# Altium footprint library recom-international.PCBLIB: 6 footprints
Each footprint in its own frame and in the unit in brackets; x right, y up, seen from the top. Pads: shape width x height; smd on the part's side, far side on the other; paste and mask are expansions set on the pad; w line width, h text height; cw(c..) or ccw(c..) is an arc to the next point about the centre after c.
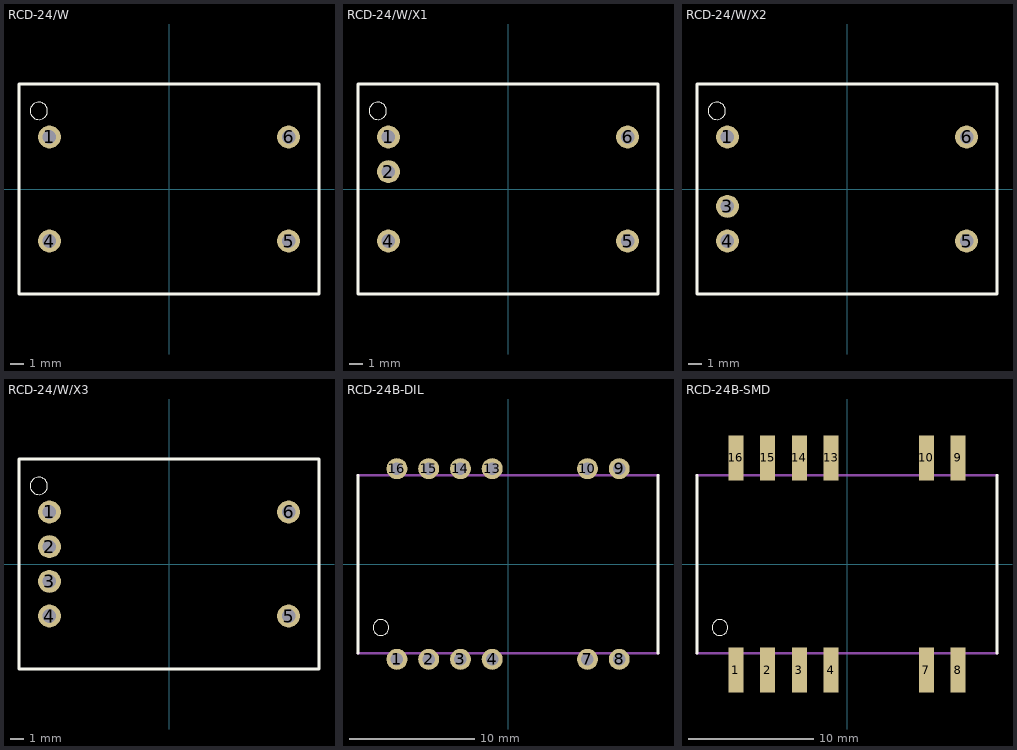
[diagram p0: the footprints below, top view; thin cyan lines are the x and y axes]

## RCD-24/W [mil]
pads (4):
  round 66 hole 39.37: 1(-344.49,150) 4(-344.49,-150) 5(344.49,-150) 6(344.49,150)
Top Overlay:
  circle w0: c-375,225 r25
  lines w8: -432.09,-302.17 432.09,-302.17 432.09,302.17 -432.09,302.17 -432.09,-302.17

## RCD-24/W/X1 [mil]
pads (5):
  round 66 hole 39.37: 1(-344.49,150) 2(-344.49,50) 4(-344.49,-150) 5(344.49,-150) 6(344.49,150)
Top Overlay:
  circle w0: c-375,225 r25
  lines w8: -432.09,-302.17 432.09,-302.17 432.09,302.17 -432.09,302.17 -432.09,-302.17

## RCD-24/W/X2 [mil]
pads (5):
  round 66 hole 39.37: 1(-344.49,150) 3(-344.49,-50) 4(-344.49,-150) 5(344.49,-150) 6(344.49,150)
Top Overlay:
  circle w0: c-375,225 r25
  lines w8: -432.09,-302.17 432.09,-302.17 432.09,302.17 -432.09,302.17 -432.09,-302.17

## RCD-24/W/X3 [mil]
pads (6):
  round 66 hole 39.37: 1(-344.49,150) 2(-344.49,50) 3(-344.49,-50) 4(-344.49,-150) 5(344.49,-150) 6(344.49,150)
Top Overlay:
  circle w0: c-375,225 r25
  lines w8: -432.09,-302.17 432.09,-302.17 432.09,302.17 -432.09,302.17 -432.09,-302.17

## RCD-24B-DIL [mil]
pads (12):
  round 66 hole 39.37: 1(-350,-300) 2(-250,-300) 3(-150,-300) 4(-50,-300) 7(250,-300) 8(350,-300) 9(350,300) 10(250,300) 13(-50,300) 14(-150,300) 15(-250,300) 16(-350,300)
Top Overlay:
  circle w0: c-400,-200 r25
  lines w8: -472.44,-281.1 -472.44,280.12 ; 472.05,-281.1 472.05,280.12
Mechanical 16:
  lines w8: -472.44,-281.1 472.05,-281.1 ; -472.44,280.12 472.05,280.12

## RCD-24B-SMD [mil]
pads (12):
  rect 47.24x141.73 smd: 1(-350,-334.45) 2(-250,-334.45) 3(-150,-334.45) 4(-50,-334.45) 7(250,-334.45) 8(350,-334.45) 9(350,334.45) 10(250,334.45) 13(-50,334.45) 14(-150,334.45) 15(-250,334.45) 16(-350,334.45)
Top Overlay:
  circle w0: c-400,-200 r25
  lines w8: -472.44,-281.1 -472.44,280.12 ; 472.05,-281.1 472.05,280.12
Mechanical 16:
  lines w8: -472.44,-281.1 472.05,-281.1 ; -472.44,280.12 472.05,280.12